# Altium footprint library 1001878410200TLF.PcbLib: 1 footprints
Each footprint in its own frame and in the unit in brackets; x right, y up, seen from the top. Pads: shape width x height; smd on the part's side, far side on the other; paste and mask are expansions set on the pad; w line width, h text height; cw(c..) or ccw(c..) is an arc to the next point about the centre after c.
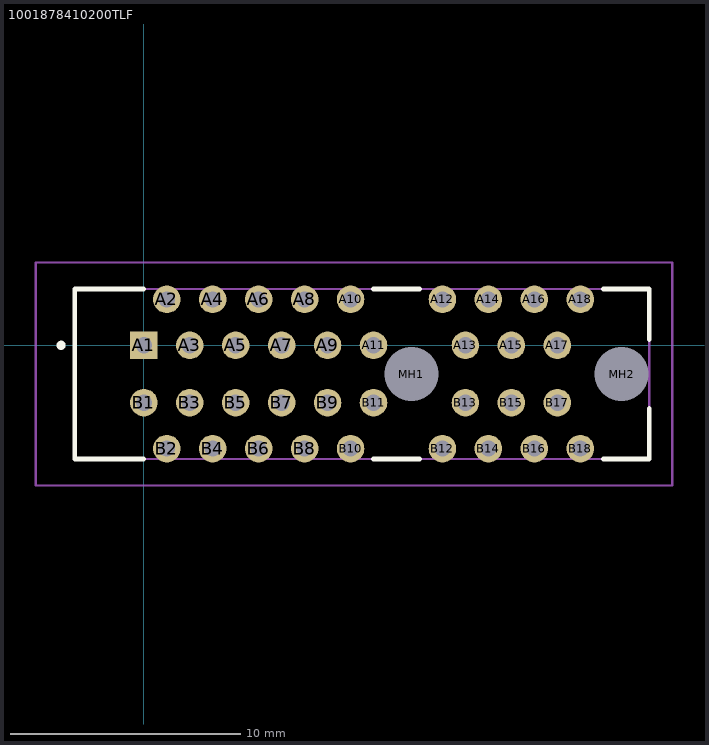
[diagram p0: the footprint, top view; thin cyan lines are the x and y axes]

## 1001878410200TLF [mm]
pads (38):
  rect 1.2x1.2 hole 0.7: A1(0,0)
  round 1.2 hole 0.7: A2(1,2) A3(2,0) A4(3,2) A5(4,0) A6(5,2) A7(6,0) A8(7,2) A9(8,0) A10(9,2) A11(10,0) A12(13,2) A13(14,0) A14(15,2) A15(16,0) A16(17,2) A17(18,0) A18(19,2) B1(0,-2.5) B2(1,-4.5) B3(2,-2.5) B4(3,-4.5) B5(4,-2.5) B6(5,-4.5) B7(6,-2.5) B8(7,-4.5) B9(8,-2.5) B10(9,-4.5) B11(10,-2.5) B12(13,-4.5) B13(14,-2.5) B14(15,-4.5) B15(16,-2.5) B16(17,-4.5) B17(18,-2.5) B18(19,-4.5)
  round 1.175 hole 2.35 unplated: MH1(11.65,-1.25) MH2(20.8,-1.25)
Top Overlay:
  lines w0.2: -3.6,-0.1 cw(c-3.6,0) -3.6,0.1 ; -3.6,-0.1 -3.6,-0.1 ; -3.6,-0.1 ccw(c-3.6,0) -3.6,0.1 ; -3.6,0.1 -3.6,0.1 ; -3,-4.95 0,-4.95 ; -3,-4.95 -3,-4.95 ; -3,-4.95 0,-4.95 ; -3,-4.95 -3,-4.95 ; -3,-4.95 -3,2.45 ; -3,-4.95 -3,2.45 ; -3,2.45 0,2.45 ; -3,2.45 0,2.45 ; -3,2.45 -3,2.45 ; -3,2.45 -3,2.45 ; 0,-4.95 0,-4.95 ; 0,2.45 0,2.45 ; 10,-4.95 12,-4.95 ; 10,-4.95 12,-4.95 ; 10,-4.95 10,-4.95 ; 10,2.45 12,2.45 ; 10,2.45 12,2.45 ; 10,2.45 10,2.45 ; 12,-4.95 12,-4.95 ; 12,2.45 12,2.45 ; 20,-4.95 22,-4.95 ; 20,-4.95 20,-4.95 ; 20,-4.95 22,-4.95 ; 20,2.45 22,2.45 ; 20,2.45 22,2.45 ; 20,2.45 20,2.45 ; 22,-4.95 22,-4.95 ; 22,-4.95 22,-2.75 ; 22,-4.95 22,-4.95 ; 22,-4.95 22,-2.75 ; 22,-2.75 22,-2.75 ; 22,0.25 22,2.45 ; 22,0.25 22,0.25 ; 22,0.25 22,2.45 ; 22,2.45 22,2.45 ; 22,2.45 22,2.45
Mechanical 15:
  lines w0.1: -3,-4.95 22,-4.95 22,2.45 -3,2.45 -3,-4.95
Mechanical 20:
  lines w0.1: -4.7,-6.1 23,-6.1 23,3.6 -4.7,3.6 -4.7,-6.1